# Altium schematic symbol library Inductors.SchLib: 8 symbols
Pins are listed as number, name and electrical type; pins without a type are passive.

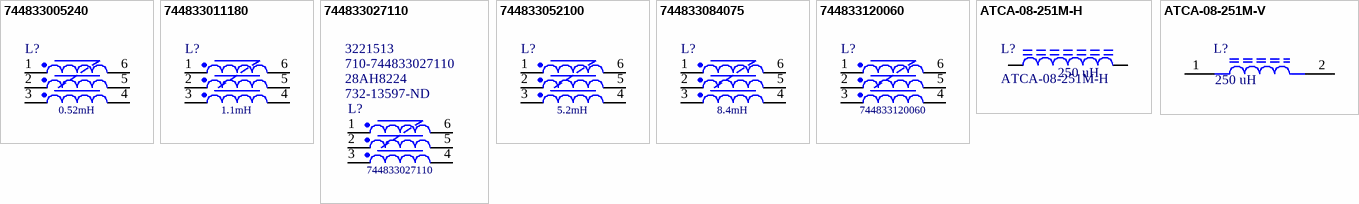
[diagram p0: symbols 744833005240 to ATCA-08-251M-V]

## 744833005240
designator L?, comment 0.52mH
WE-TPB Common Mode Power Line Choke, Type 3XL, 0.52mH, 24A, 500V; Manufacturer Part Number: 744833005240; Manufacturer: Wurth Elektronik; DC Resistance max.: 3mOhm; Insulation Test Voltage: 2500VAC; Rated Voltage: 500VAC; ComponentLink1Description: Manufacturer; ComponentLink1URL: http://www.we-online.de; ComponentLink2Description: Datasheet; ComponentLink2URL: https://www.we-online.com/catalog/datasheet/744833005240.pdf; Published Date: April 2020; Operating Temperature: -40 to +125degC; Mounting Technology: THT; Packaging: Tray and Carton; Inductance: 0.52mH; Rated Current: 24A; Size: Type 3XL
footprint WE-TPB_Type 3XL_744833005240
pins: 1, 2, 3, 4, 5, 6

## 744833011180
designator L?, comment 1.1mH
WE-TPB Common Mode Power Line Choke, Type 3XL, 1.1mH, 18A, 500V; Manufacturer Part Number: 744833011180; Manufacturer: Wurth Elektronik; DC Resistance max.: 7mOhm; Insulation Test Voltage: 2500VAC; Rated Voltage: 500VAC; ComponentLink1Description: Manufacturer; ComponentLink1URL: http://www.we-online.de; ComponentLink2Description: Datasheet; ComponentLink2URL: https://www.we-online.com/catalog/datasheet/744833011180.pdf; Published Date: April 2020; Operating Temperature: -40 to +125degC; Mounting Technology: THT; Packaging: Tray and Carton; Inductance: 1.1mH; Rated Current: 18A; Size: Type 3XL
footprint WE-TPB_Type 3XL_744833011180
pins: 1, 2, 3, 4, 5, 6

## 744833027110
designator L?  Supplier Part Number 1: 732-13597-ND  Supplier Part Number 2: 28AH8224  Supplier Part Number 3: 710-744833027110  Supplier Part Number 4: 3221513
WE-TPB Common Mode Power Line Choke, Type 3XL, 2.7mH, 11A, 500V; Manufacturer: Wurth Elektronik; DC Resistance max.: 18mOhm; Insulation Test Voltage: 2500VAC; Rated Voltage: 500VAC; ComponentLink1Description: Manufacturer; ComponentLink1URL: http://www.we-online.de; ComponentLink2Description: Datasheet; ComponentLink2URL: https://www.we-online.com/catalog/datasheet/744833027110.pdf; Manufacturer Part Number: 744833027110; Published Date: April 2020; Operating Temperature: -40 to +125degC; Mounting Technology: THT; Packaging: Tray and Carton; Inductance: 2.7mH; Rated Current: 11A; Size: Type 3XL; Supplier 1: Digi-Key; Supplier 2: Newark; Supplier 3: Mouser; Supplier 4: Farnell
footprint WE-TPB_Type 3XL_744833027110
pins: 1, 2, 3, 4, 5, 6

## 744833052100
designator L?, comment 5.2mH
WE-TPB Common Mode Power Line Choke, Type 3XL, 5.2mH, 10A, 500V; Manufacturer Part Number: 744833052100; Manufacturer: Wurth Elektronik; DC Resistance max.: 27mOhm; Insulation Test Voltage: 2500VAC; Rated Voltage: 500VAC; ComponentLink1Description: Manufacturer; ComponentLink1URL: http://www.we-online.de; ComponentLink2Description: Datasheet; ComponentLink2URL: https://www.we-online.com/catalog/datasheet/744833052100.pdf; Published Date: April 2020; Operating Temperature: -40 to +125degC; Mounting Technology: THT; Packaging: Tray and Carton; Inductance: 5.2mH; Rated Current: 10A; Size: Type 3XL
footprint WE-TPB_Type 3XL_744833052100
pins: 1, 2, 3, 4, 5, 6

## 744833084075
designator L?, comment 8.4mH
WE-TPB Common Mode Power Line Choke, Type 3XL, 8.4mH, 7.5A, 500V; Manufacturer Part Number: 744833084075; Manufacturer: Wurth Elektronik; DC Resistance max.: 50mOhm; Insulation Test Voltage: 2500VAC; Rated Voltage: 500VAC; ComponentLink1Description: Manufacturer; ComponentLink1URL: http://www.we-online.de; ComponentLink2Description: Datasheet; ComponentLink2URL: https://www.we-online.com/catalog/datasheet/744833084075.pdf; Published Date: April 2020; Operating Temperature: -40 to +125degC; Mounting Technology: THT; Packaging: Tray and Carton; Inductance: 8.4mH; Rated Current: 7.5A; Size: Type 3XL
footprint WE-TPB_Type 3XL_744833084075
pins: 1, 2, 3, 4, 5, 6

## 744833120060
designator L?
WE-TPB Common Mode Power Line Choke, Type 3XL, 12mH, 6A, 500V; Manufacturer: Wurth Elektronik; DC Resistance max.: 65mOhm; Insulation Test Voltage: 2500VAC; Rated Voltage: 500VAC; ComponentLink1Description: Manufacturer; ComponentLink1URL: http://www.we-online.de; ComponentLink2Description: Datasheet; ComponentLink2URL: https://www.we-online.com/catalog/datasheet/744833120060.pdf; Manufacturer Part Number: 744833120060; Published Date: April 2020; Operating Temperature: -40 to +125degC; Mounting Technology: THT; Packaging: Tray and Carton; Inductance: 12mH; Rated Current: 6A; Size: Type 3XL
footprint WE-TPB_Type 3XL_744833120060
pins: 1, 2, 3, 4, 5, 6

## ATCA-08-251M-H
designator L?  Inductance: 250 uH
Fixed Inductors 250uH 27 mOhm Max -40 C - 105 C - ABRACON; Maximum DC current: 10 A; Maximum DC Resistance: 27 mOhm; Lead Diameter: 1.6 mm; Diameter: 42.5 mm; Supplier 1: Digi-Key; Supplier 2: Mouser; Supplier 3: Arrow; Supplier Part Number 1: 535-13511-ND; Supplier Part Number 2: 815-ATCA-08-251M-H; Supplier Part Number 3: ATCA-08-251M-H
footprint ATCA-08-251M-H (Fixed Inductors 250uH 27 mOhm Horizontal)
pins: 1, 2

## ATCA-08-251M-V
designator L?  Inductance: 250 uH  (hidden comment: ATCA-08-251M-V)
Fixed Inductors 130uH 31 mOhm Max -40 C - 105 C; Manufacturer: ABRACON; Maximum DC current: 10 A; Tolerance: 20%; Mounting: PCB; Length: 21.5mm; Height: 42.5mm; Diameter: 42.5mm; Weight: 600mg; Supplier 1: Digi-Key; Supplier 2: Mouser; Supplier 3: Arrow; Supplier Part Number 1: 535-13513-ND; Supplier Part Number 2: 815-ATCA-08-251M-V; Supplier Part Number 3: ATCA-08-251M-V
footprint ATCA-08-251M-V (Vertical - Fixed Inductors 130uH 31 mOhm Max -40 C - 105 C)
pins: 1, 2